# Altium schematic symbol library Regulator_SwitchedCapacitor.SchLib: 23 symbols
Pins are listed as number, name and electrical type; pins without a type are passive.

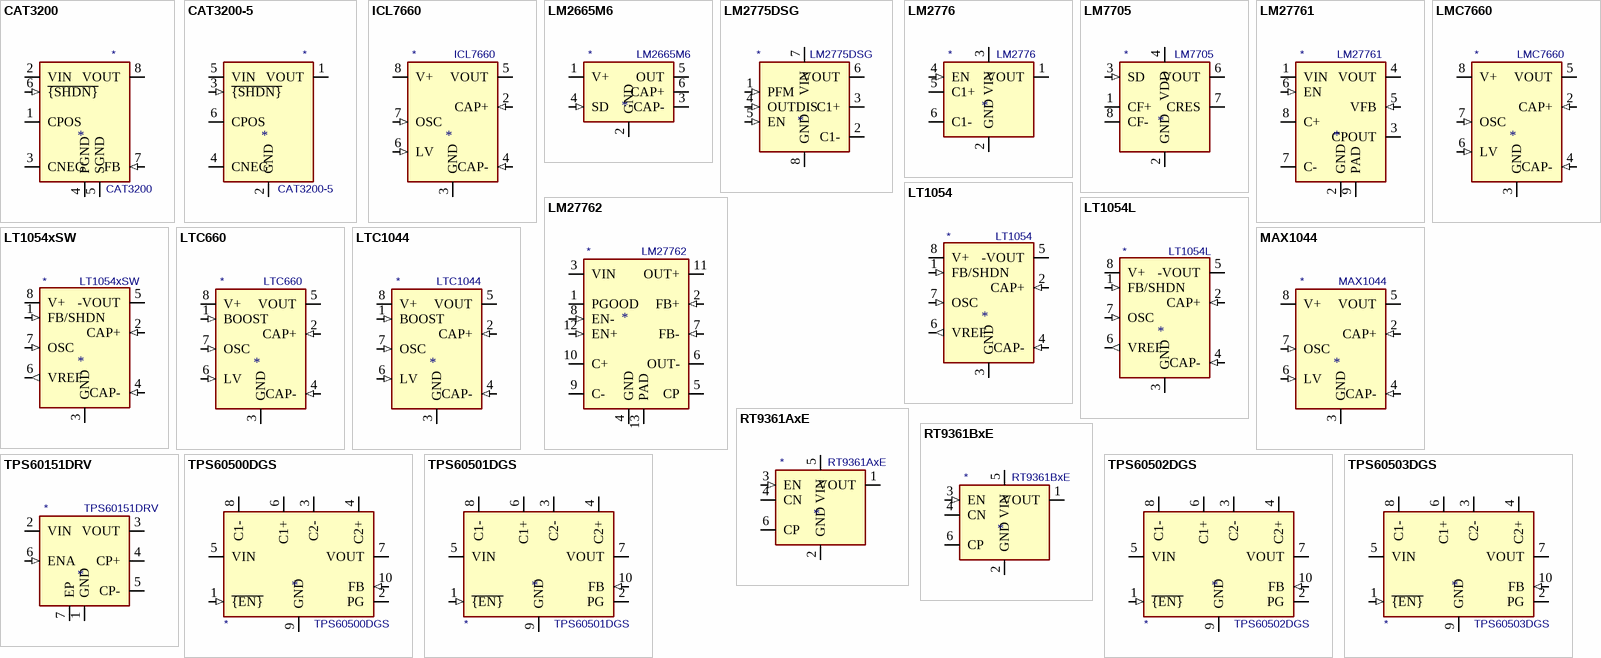
[diagram p0: symbols CAT3200 to TPS60503DGS]

## CAT3200
designator *  value CAT3200
ki_keywords: switched capacitor charge pump; ki_description: Low Noise Regulated Charge Pump DC-DC Converter, 100 mA, MSOP-8; ki_fp_filters: MSOP*; Footprint: Package_SO:MSOP-8_3x3mm_P0.65mm; Supplier: https://www.onsemi.com/pdf/datasheet/cat3200-d.pdf
footprint MSOP-8_3x3mm_P0.65mm
pins: 1 CPOS, 2 VIN (power), 3 CNEG, 4 PGND (power), 5 SGND (power), 6 ~{{SHDN}} (in), 7 FB (in), 8 VOUT (power)

## CAT3200-5
designator *  value CAT3200-5
ki_keywords: switched capacitor charge pump; ki_description: Low Noise Regulated Charge Pump DC-DC Converter, 5 V, 100 mA, SOT-23-6; ki_fp_filters: SOT?23*; Footprint: Package_TO_SOT_SMD:SOT-23-6; Supplier: https://www.onsemi.com/pdf/datasheet/cat3200-d.pdf
footprint SOT-23-6
pins: 1 VOUT (power), 2 GND (power), 3 ~{{SHDN}} (in), 4 CNEG, 5 VIN (power), 6 CPOS

## ICL7660
designator *  value ICL7660
ki_keywords: monolithic CMOS switched capacitor voltage converter invert double divide multiply; ki_description: Switched-Capacitor Voltage Converter, 1.5V to 10.0V operating supply voltage, 10mA with a 0.5V output drop, SO-8/DIP-8/µMAX-8/TO-99; ki_fp_filters: DIP*W7.62mm* SOIC*3.9x4.9mm* MSOP*3x3mm*P0.65mm* TO?99*; Supplier: http://datasheets.maximintegrated.com/en/ds/ICL7660-MAX1044.pdf
pins: 1 NC (in) hidden, 2 CAP+ (in), 3 GND (power), 4 CAP- (in), 5 VOUT (power), 6 LV (in), 7 OSC (in), 8 V+ (power)

## LM2665M6
designator *  value LM2665M6
ki_keywords: switched capacitor voltage converter doubler splitter; ki_description: Switched Capacitor Voltage Converter, Doubles or Splits Input Supply Voltage (2.5 V to 5.5 V or 1.8 V to 11 V), 40 mA, SOT-23-6; ki_fp_filters: SOT?23*; Footprint: Package_TO_SOT_SMD:SOT-23-6; Supplier: https://www.ti.com/lit/ds/symlink/lm2665.pdf
footprint SOT-23-6
pins: 1 V+, 2 GND (power), 3 CAP-, 4 SD (in), 5 OUT, 6 CAP+

## LM2775DSG
designator *  value LM2775DSG
ki_keywords: Charge pump inductorless; ki_description: 5V charge pump, 200mA, WSON-8; ki_fp_filters: WSON*1EP*2x2mm*P0.5mm*; Footprint: Package_SON:WSON-8-1EP_2x2mm_P0.5mm_EP0.9x1.6mm_ThermalVias; Supplier: https://www.ti.com/lit/gpn/lm2775
footprint WSON-8-1EP_2x2mm_P0.5mm_EP0.9x1.6mm_ThermalVias
pins: 1 PFM (in), 2 C1-, 3 C1+, 4 OUTDIS (in), 5 EN (in), 6 VOUT (power), 7 VIN (power), 8 GND (power), 9 GND hidden

## LM2776
designator *  value LM2776
ki_keywords: Switched capacitor inverter; ki_description: Switched capacitor inverter, inverts positive voltage +2.7 to +5.5V to negative, 200mA, SOT-23-6; ki_fp_filters: SOT?23*; Footprint: Package_TO_SOT_SMD:SOT-23-6; Supplier: http://www.ti.com/lit/ds/symlink/lm2776.pdf
footprint SOT-23-6
pins: 1 VOUT (power), 2 GND (power), 3 VIN (power), 4 EN (in), 5 C1+, 6 C1-

## LM7705
designator *  value LM7705
ki_keywords: switched capacitor voltage converter inverter negative bias regulator; ki_description: Negative bias generator, low-noise, 3-5.25V input, -0.232V fixed output, VSSOP-8; ki_fp_filters: VSSOP*3.0x3.0mm*P0.65mm*; Footprint: Package_SO:VSSOP-8_3.0x3.0mm_P0.65mm; Supplier: http://www.ti.com/lit/ds/symlink/lm7705.pdf
footprint VSSOP-8_3.0x3.0mm_P0.65mm
pins: 1 CF+, 2 GND (power), 3 SD (in), 4 VDD (power), 5 GND hidden, 6 VOUT (power), 7 CRES, 8 CF-

## LM27761
designator *  value LM27761
ki_keywords: low-noise switched capacitor voltage converter invert; ki_description: low-noise regulated switched-capacitor voltage inverter with 2.7V-5.5V input to -1.5 to -5V Output Voltage, WSON-8; ki_fp_filters: WSON*1EP?2x2mm*P0.5mm*; Footprint: Package_SON:WSON-8-1EP_2x2mm_P0.5mm_EP0.9x1.6mm; Supplier: http://www.ti.com/lit/ds/symlink/lm27761.pdf
footprint WSON-8-1EP_2x2mm_P0.5mm_EP0.9x1.6mm
pins: 1 VIN (power), 2 GND (power), 3 CPOUT (power), 4 VOUT (power), 5 VFB (in), 6 EN (in), 7 C-, 8 C+, 9 PAD (power)

## LM27762
designator *  value LM27762
ki_keywords: Low-noise inverting charge pump with both positive and negative LDO's; ki_description: Low-noise inverting charge pump with both positive and negative LDO's, with 2.7V-5.5V input to +1.5 to +5V and -1.5 to -5V Output Voltage, WSON-12; ki_fp_filters: WSON*1EP?3x2mm*P0.5mm*ThermalVias*; Footprint: Package_SON:WSON-12-1EP_3x2mm_P0.5mm_EP1x2.65_ThermalVias; Supplier: http://www.ti.com/lit/ds/symlink/lm27762.pdf
footprint WSON-12-1EP_3x2mm_P0.5mm_EP1x2.65_ThermalVias
pins: 1 PGOOD (oc), 2 FB+ (in), 3 VIN (power), 4 GND (power), 5 CP, 6 OUT- (power), 7 FB- (in), 8 EN- (in), 9 C-, 10 C+, 11 OUT+ (power), 12 EN+ (in), 13 PAD (power)

## LMC7660
designator *  value LMC7660
ki_keywords: Voltage converter; ki_description: Voltage converter from +1.5V to +10V to +1.5V to +10V, SO-8/DIP-8; ki_fp_filters: SOIC*3.9x4.9mm*P1.27mm* DIP*W7.62mm*; Supplier: http://www.ti.com/lit/ds/symlink/lmc7660.pdf
pins: 1 NC (in) hidden, 2 CAP+ (in), 3 GND (power), 4 CAP- (in), 5 VOUT (power), 6 LV (in), 7 OSC (in), 8 V+ (power)

## LT1054
designator *  value LT1054
ki_keywords: monolithic bipolar switched capacitor voltage converter regulator inverter doubler shutdown; ki_description: Switched-Capacitor Voltage Converter with Regulator, output current 100mA, operating range 3.5V to 15V, low loss 1.1V at 100mA, DIP-8/SO-8; ki_fp_filters: DIP*W7.62mm* SOIC*3.9x4.9mm*; Supplier: https://www.analog.com/media/en/technical-documentation/data-sheets/1054lfh.pdf
pins: 1 FB/SHDN (in), 2 CAP+ (in), 3 GND (power), 4 CAP- (in), 5 -VOUT (power), 6 VREF (out), 7 OSC (in), 8 V+ (power)

## LT1054L
designator *  value LT1054L
ki_keywords: monolithic bipolar switched capacitor voltage converter regulator inverter doubler shutdown; ki_description: Switched-Capacitor Voltage Converter with Regulator, output current 125mA, operating range 3.5V to 15V, low loss 1.1V at 100mA, DIP-8/SO-8; ki_fp_filters: DIP*W7.62mm* SOIC*3.9x4.9mm*; Supplier: https://www.analog.com/media/en/technical-documentation/data-sheets/1054lfh.pdf
pins: 1 FB/SHDN (in), 2 CAP+ (in), 3 GND (power), 4 CAP- (in), 5 -VOUT (power), 6 VREF (out), 7 OSC (in), 8 V+ (power)

## LT1054xSW
designator *  value LT1054xSW
ki_keywords: monolithic bipolar switched capacitor voltage converter regulator inverter doubler shutdown; ki_description: Switched-Capacitor Voltage Converter with Regulator, output current 100mA, operating range 3.5V to 15V, low loss 1.1V at 100mA, SO-16; ki_fp_filters: SOIC?16W*7.5x10.3mm*P1.27mm*; Footprint: Package_SO:SOIC-16W_7.5x10.3mm_P1.27mm; Supplier: https://www.analog.com/media/en/technical-documentation/data-sheets/1054lfh.pdf
footprint SOIC-16W_7.5x10.3mm_P1.27mm
pins: 1 FB/SHDN (in), 2 CAP+ (in), 3 GND (power), 4 CAP- (in), 5 -VOUT (power), 6 VREF (out), 7 OSC (in), 8 V+ (power)

## LTC660
designator *  value LTC660
ki_keywords: monolithic CMOS switched capacitor voltage converter invert double divide multiply boost; ki_description: Monolithic CMOS switched-capacitor from 1.5V to 5.5V up to 100mA, SO-8/DIP-8; ki_fp_filters: DIP*W7.62mm* SOIC*3.9x4.9mm*; Supplier: https://www.analog.com/media/en/technical-documentation/data-sheets/660fa.pdf
pins: 1 BOOST (in), 2 CAP+ (in), 3 GND (power), 4 CAP- (in), 5 VOUT (power), 6 LV (in), 7 OSC (in), 8 V+ (power)

## LTC1044
designator *  value LTC1044
ki_keywords: monolithic CMOS switched capacitor voltage converter invert double divide multiply boost; ki_description: Switched Capacitor Voltage Converter, 1.5V to 9V supply operation, 200uA Max No Load Supply Current at 5V, DIP-8/TO-99; ki_fp_filters: DIP*W7.62mm* TO?99*; Supplier: https://www.analog.com/media/en/technical-documentation/data-sheets/lt1044.pdf
pins: 1 BOOST (in), 2 CAP+ (in), 3 GND (power), 4 CAP- (in), 5 VOUT (power), 6 LV (in), 7 OSC (in), 8 V+ (power)

## MAX1044
designator *  value MAX1044
ki_keywords: monolithic CMOS switched capacitor voltage converter invert double divide multiply boost; ki_description: Switched-Capacitor Voltage Converter, 1.5V to 10.0V operating supply voltage, 10mA with a 0.5V output drop, SO-8/DIP-8/µMAX-8/TO-99; ki_fp_filters: DIP*W7.62mm* SOIC*3.9x4.9mm* MSOP*3x3mm*P0.65mm* TO?99*; Supplier: http://datasheets.maximintegrated.com/en/ds/ICL7660-MAX1044.pdf
pins: 1 NC (in) hidden, 2 CAP+ (in), 3 GND (power), 4 CAP- (in), 5 VOUT (power), 6 LV (in), 7 OSC (in), 8 V+ (power)

## RT9361AxE
designator *  value RT9361AxE
ki_keywords: Switched capacitor boost; ki_description: Switched capacitor boost, Fixed 5V output, 110mA, SOT-23-6; ki_fp_filters: SOT?23*; Footprint: Package_TO_SOT_SMD:SOT-23-6; Supplier: https://www.richtek.com/assets/product_file/RT9361A=RT9361B/DS9361AB-14.pdf
footprint SOT-23-6
pins: 1 VOUT (power), 2 GND (power), 3 EN (in), 4 CN, 5 VIN (power), 6 CP

## RT9361BxE
designator *  value RT9361BxE
ki_keywords: Switched capacitor boost; ki_description: Switched capacitor boost, Fixed 4.5V output, 150mA, SOT-23-6; ki_fp_filters: SOT?23*; Footprint: Package_TO_SOT_SMD:SOT-23-6; Supplier: https://www.richtek.com/assets/product_file/RT9361A=RT9361B/DS9361AB-14.pdf
footprint SOT-23-6
pins: 1 VOUT (power), 2 GND (power), 3 EN (in), 4 CN, 5 VIN (power), 6 CP

## TPS60151DRV
designator *  value TPS60151DRV
ki_keywords: charge pump; ki_description: 5V, 140mA charge-pump, WSON-6; ki_fp_filters: WSON*1EP*2x2mm*P0.65mm*; Footprint: Package_SON:WSON-6-1EP_2x2mm_P0.65mm_EP1x1.6mm_ThermalVias; Supplier: https://www.ti.com/lit/ds/symlink/tps60151.pdf
footprint WSON-6-1EP_2x2mm_P0.65mm_EP1x1.6mm_ThermalVias
pins: 1 GND (power), 2 VIN (power), 3 VOUT (power), 4 CP+, 5 CP-, 6 ENA (in), 7 EP

## TPS60500DGS
designator *  value TPS60500DGS
ki_keywords: Regulator Step-Down Charge Pump TPS Texas Instruments Ti; ki_description: 250mA High-Efficiency Step-Down Charge Pump Regulator, Adjustable Output Voltage, MSOP-10; ki_fp_filters: MSOP*3x3mm*P0.5mm*; Footprint: Package_SO:MSOP-10_3x3mm_P0.5mm; Supplier: http://www.ti.com/lit/ds/symlink/tps60503.pdf
footprint MSOP-10_3x3mm_P0.5mm
pins: 1 ~{{EN}} (in), 2 PG (oc), 3 C2-, 4 C2+, 5 VIN (power), 6 C1+, 7 VOUT (power), 8 C1-, 9 GND (power), 10 FB (in)

## TPS60501DGS
designator *  value TPS60501DGS
ki_keywords: Regulator Step-Down Charge Pump TPS Texas Instruments Ti; ki_description: 250mA High-Efficiency Step-Down Charge Pump Regulator, 3.3V Output Voltage, MSOP-10; ki_fp_filters: MSOP*3x3mm*P0.5mm*; Footprint: Package_SO:MSOP-10_3x3mm_P0.5mm; Supplier: http://www.ti.com/lit/ds/symlink/tps60503.pdf
footprint MSOP-10_3x3mm_P0.5mm
pins: 1 ~{{EN}} (in), 2 PG (oc), 3 C2-, 4 C2+, 5 VIN (power), 6 C1+, 7 VOUT (power), 8 C1-, 9 GND (power), 10 FB (in)

## TPS60502DGS
designator *  value TPS60502DGS
ki_keywords: Regulator Step-Down Charge Pump TPS Texas Instruments Ti; ki_description: 250mA High-Efficiency Step-Down Charge Pump Regulator, 1.8V Output Voltage, MSOP-10; ki_fp_filters: MSOP*3x3mm*P0.5mm*; Footprint: Package_SO:MSOP-10_3x3mm_P0.5mm; Supplier: http://www.ti.com/lit/ds/symlink/tps60503.pdf
footprint MSOP-10_3x3mm_P0.5mm
pins: 1 ~{{EN}} (in), 2 PG (oc), 3 C2-, 4 C2+, 5 VIN (power), 6 C1+, 7 VOUT (power), 8 C1-, 9 GND (power), 10 FB (in)

## TPS60503DGS
designator *  value TPS60503DGS
ki_keywords: Regulator Step-Down Charge Pump TPS Texas Instruments Ti; ki_description: 250mA High-Efficiency Step-Down Charge Pump Regulator, 1.5V Output Voltage, MSOP-10; ki_fp_filters: MSOP*3x3mm*P0.5mm*; Footprint: Package_SO:MSOP-10_3x3mm_P0.5mm; Supplier: http://www.ti.com/lit/ds/symlink/tps60503.pdf
footprint MSOP-10_3x3mm_P0.5mm
pins: 1 ~{{EN}} (in), 2 PG (oc), 3 C2-, 4 C2+, 5 VIN (power), 6 C1+, 7 VOUT (power), 8 C1-, 9 GND (power), 10 FB (in)